# EAGLE library part PMDXB600UNE (library LinnesLab-DiscreteSemi)
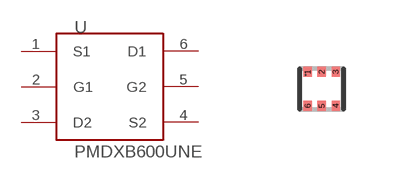
[diagram p3: symbol with the pads of SOT1216; footprint SOT1216]

Designator prefix -

## PMDXB600UNE  [SOT1216]
1  S1
2  G1
3  D2
4  S2
5  G2
6  D1

## Footprint SOT1216 (pad centres in mm)
smd 0.2 x 0.25: 1 -0.35,0.425; 2 0,0.425; 3 0.35,0.425; 4 0.35,-0.425; 5 0,-0.425; 6 -0.35,-0.425